# Altium schematic symbol library Terminal Block 1.SchLib: 1 symbol
Pins are listed as number, name and electrical type; pins without a type are passive.

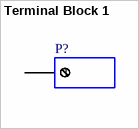
[diagram p0: symbol Terminal Block 1]

## Terminal Block 1
designator P?
Screw terminal block, 1-Way
pins: 1